# Altium schematic symbol library 26DC_20V_V1.3.SCHLIB: 44 symbols
Pins are listed as number, name and electrical type; pins without a type are passive.

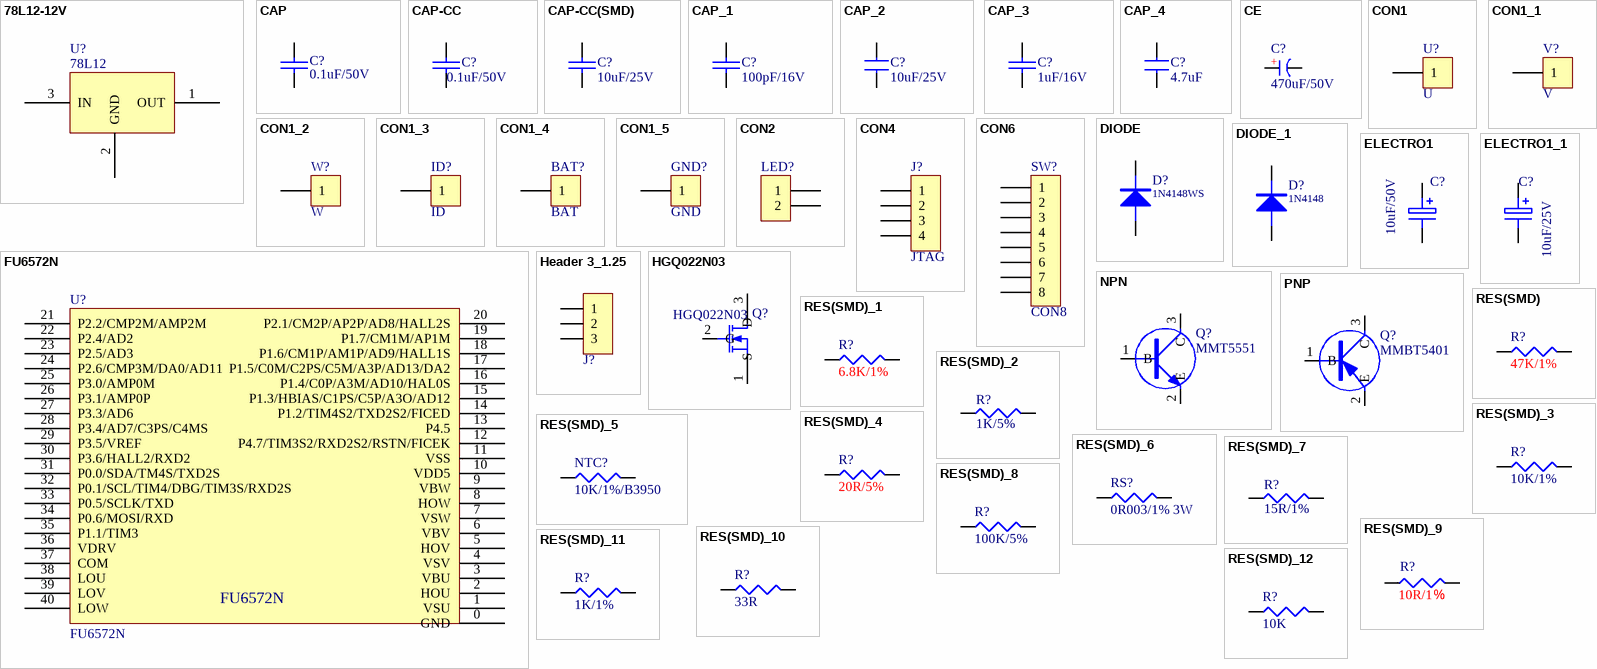
[diagram p0: symbols 78L12-12V to RES(SMD)_12]

## 78L12-12V
designator U?, comment 78L12
footprint SOT-89
pins: 1 OUT, 2 GND, 3 IN

## CAP
designator C?, comment 0.1uF/50V
Capacitor
footprint C0805
footprint 0402C_0.4mm_modifyed
footprint C0603
pins: 1, 2
2 alternate drawings of the same symbol

## CAP-CC
designator C?, comment 0.1uF/50V
Capacitor
footprint CK06
footprint C0603
footprint 0402C_0.4mm_modifyed
pins: 1, 2
2 alternate drawings of the same symbol

## CAP-CC(SMD)
designator C?, comment 10uF/25V
Capacitor
footprint 0603
footprint 0805
footprint 1206
footprint C0805
pins: 1, 2
2 alternate drawings of the same symbol

## CAP_1
designator C?, comment 100pF/16V
Capacitor
footprint C0805
footprint C0603
footprint 0402C_0.4mm_modifyed
pins: 1, 2
2 alternate drawings of the same symbol

## CAP_2
designator C?, comment 10uF/25V
Capacitor
footprint C1206
footprint C0805
footprint C0603
footprint C-3
pins: 1, 2

## CAP_3
designator C?, comment 1uF/16V
Capacitor
footprint C0603
pins: 1, 2
2 alternate drawings of the same symbol

## CAP_4
designator C?, comment 4.7uF
Capacitor
footprint C1206
footprint C0805
footprint C0603
footprint C-3
pins: 1, 2

## CE
designator C?, comment 470uF/50V
直插电解电容; 淘宝ID: 封装库来自淘宝 ID：黄晶宝石; BOM名称: 直插电解电容; 联系售后: https://item.taobao.com/item.htm?id=566775463719
footprint CE-1.5*4*8 - BK (脚距1.5mm直径4mm高度8mm)
footprint CE-1.5*4*8 - GD (脚距1.5mm直径4mm高度8mm)
footprint CE-1.5*4*8-H (脚距1.5mm直径4mm高度8mm)
footprint CE-1.5*4*8-H - BK (脚距1.5mm直径4mm高度8mm)
footprint CE-1.5*4*8-H - GD (脚距1.5mm直径4mm高度8mm)
footprint CE-2.0*5*11 (脚距2mm直径5mm高度11mm)
footprint CE-2.0*5*11 - BK (脚距2mm直径5mm高度11mm)
footprint CE-2.0*5*11 - GD (脚距2mm直径5mm高度11mm)
footprint CE-2.0*5*11-H (脚距2mm直径5mm高度11mm)
footprint CE-2.0*5*11-H - BK (脚距2mm直径5mm高度11mm)
footprint CE-2.0*5*11-H - GD (脚距2mm直径5mm高度11mm)
footprint CE-2.5*5*11 (脚距2.5mm直径5mm高度11mm)
footprint CE-2.5*5*11 - BK (脚距2.5mm直径5mm高度11mm)
footprint CE-2.5*5*11 - GD (脚距2.5mm直径5mm高度11mm)
footprint CE-2.5*5*11-H (脚距2.5mm直径5mm高度11mm)
footprint CE-2.5*5*11-H - BK (脚距2.5mm直径5mm高度11mm)
footprint CE-2.5*5*11-H - GD (脚距2.5mm直径5mm高度11mm)
footprint CE-2.5*6.3*7 (脚距2.5mm直径6.3mm高度7mm)
footprint CE-2.5*6.3*7 - BK (脚距2.5mm直径6.3mm高度7mm)
footprint CE-2.5*6.3*7 - GD (脚距2.5mm直径6.3mm高度7mm)
footprint CE-2.5*6.3*7-H (脚距2.5mm直径6.3mm高度7mm)
footprint CE-2.5*6.3*7-H - BK (脚距2.5mm直径6.3mm高度7mm)
footprint CE-2.5*6.3*7-H - GD (脚距2.5mm直径6.3mm高度7mm)
footprint CE-2.5*6.3*11.2 (脚距2.5mm直径6.3mm高度11.2mm)
footprint CE-2.5*6.3*11.2 - BK (脚距2.5mm直径6.3mm高度11.2mm)
footprint CE-2.5*6.3*11.2 - GD (脚距2.5mm直径6.3mm高度11.2mm)
footprint CE-2.5*6.3*11.2-H (脚距2.5mm直径6.3mm高度11.2mm)
footprint CE-2.5*6.3*11.2-H - BK (脚距2.5mm直径6.3mm高度11.2mm)
footprint CE-2.5*6.3*11.2-H - GD (脚距2.5mm直径6.3mm高度11.2mm)
footprint CE-3.5*8*11.5 (脚距3.5mm直径8mm高度11.5mm)
footprint CE-3.5*8*11.5 - BK (脚距3.5mm直径8mm高度11.5mm)
footprint CE-3.5*8*11.5 - GD (脚距3.5mm直径8mm高度11.5mm)
footprint CE-3.5*8*11.5-H (脚距3.5mm直径8mm高度11.5mm)
footprint CE-3.5*8*11.5-H - BK (脚距3.5mm直径8mm高度11.5mm)
footprint CE-3.5*8*11.5-H - GD (脚距3.5mm直径8mm高度11.5mm)
footprint CE-5.0*10*12.5 (脚距5mm直径10mm高度12.5mm)
footprint CE-5.0*10*12.5 - BK (脚距5mm直径10mm高度12.5mm)
footprint CE-5.0*10*12.5 - GD (脚距5mm直径10mm高度12.5mm)
footprint CE-5.0*10*12.5-H (脚距5mm直径10mm高度12.5mm)
footprint CE-5.0*10*12.5-H - BK (脚距5mm直径10mm高度12.5mm)
footprint CE-5.0*10*12.5-H - GD (脚距5mm直径10mm高度12.5mm)
footprint CE-5.0*10*16 (脚距5mm直径10mm高度16mm)
footprint CE-5.0*10*16 - BK (脚距5mm直径10mm高度16mm)
footprint CE-5.0*10*16 - GD (脚距5mm直径10mm高度16mm)
footprint CE-5.0*10*16-H (脚距5mm直径10mm高度16mm)
footprint CE-5.0*10*16-H - BK (脚距5mm直径10mm高度16mm)
footprint CE-5.0*10*16-H - GD (脚距5mm直径10mm高度16mm)
footprint CE-5.0*10*20 (脚距5mm直径10mm高度20mm)
footprint CE-5.0*10*20 - BK (脚距5mm直径10mm高度20mm)
footprint CE-5.0*10*20 - GD (脚距5mm直径10mm高度20mm)
footprint CE-5.0*10*20-H (脚距5mm直径10mm高度20mm)
footprint CE-5.0*10*20-H - BK (脚距5mm直径10mm高度20mm)
footprint CE-5.0*10*20-H - GD (脚距5mm直径10mm高度20mm)
footprint CE-5.0*12.5*20 (脚距5mm直径12.5mm高度20mm)
footprint CE-5.0*12.5*20 - BK (脚距5mm直径12.5mm高度20mm)
footprint CE-5.0*12.5*20 - GD (脚距5mm直径12.5mm高度20mm)
footprint CE-5.0*12.5*20-H (脚距5mm直径12.5mm高度20mm)
footprint CE-5.0*12.5*20-H - BK (脚距5mm直径12.5mm高度20mm)
footprint CE-5.0*12.5*20-H - GD (脚距5mm直径12.5mm高度20mm)
footprint CE-5.0*12.5*25 (脚距5mm直径12.5mm高度25mm)
footprint CE-5.0*12.5*25 - BK (脚距5mm直径12.5mm高度25mm)
footprint CE-5.0*12.5*25 - GD (脚距5mm直径12.5mm高度25mm)
footprint CE-5.0*12.5*25-H (脚距5mm直径12.5mm高度25mm)
footprint CE-5.0*12.5*25-H - BK (脚距5mm直径12.5mm高度25mm)
footprint CE-5.0*12.5*25-H - GD (脚距5mm直径12.5mm高度25mm)
footprint CE-7.5*16*25 (脚距7.5mm直径16mm高度25mm)
footprint CE-7.5*16*25 - BK (脚距7.5mm直径16mm高度25mm)
footprint CE-7.5*16*25 - GD (脚距7.5mm直径16mm高度25mm)
footprint CE-7.5*16*25-H (脚距7.5mm直径16mm高度25mm)
footprint CE-7.5*16*25-H - BK (脚距7.5mm直径16mm高度25mm)
footprint CE-7.5*16*25-H - GD (脚距7.5mm直径16mm高度25mm)
footprint CE-7.5*16*31.5 (脚距7.5mm直径16mm高度31.5mm)
footprint CE-7.5*16*31.5 - BK (脚距7.5mm直径16mm高度31.5mm)
footprint CE-7.5*16*31.5 - GD (脚距7.5mm直径16mm高度31.5mm)
footprint CE-7.5*16*31.5-H (脚距7.5mm直径16mm高度31.5mm)
footprint CE-7.5*16*31.5-H - BK (脚距7.5mm直径16mm高度31.5mm)
footprint CE-7.5*16*31.5-H - GD (脚距7.5mm直径16mm高度31.5mm)
footprint CE-7.5*18*35.5 (脚距7.5mm直径18mm高度35.5mm)
footprint CE-7.5*18*35.5 - BK (脚距7.5mm直径18mm高度35.5mm)
footprint CE-7.5*18*35.5 - GD (脚距7.5mm直径18mm高度35.5mm)
footprint CE-7.5*18*35.5-H (脚距7.5mm直径18mm高度35.5mm)
footprint CE-7.5*18*35.5-H - BK (脚距7.5mm直径18mm高度35.5mm)
footprint CE-7.5*18*35.5-H - GD (脚距7.5mm直径18mm高度35.5mm)
footprint CE-10*22*31.5 (脚距10mm直径22mm高度31.5mm)
footprint CE-10*22*31.5 - BK (脚距10mm直径22mm高度31.5mm)
footprint CE-10*22*31.5 - GD (脚距10mm直径22mm高度31.5mm)
footprint CE-10*22*40 (脚距10mm直径22mm高度40mm)
footprint CE-10*22*40 - BK (脚距10mm直径22mm高度40mm)
footprint CE-10*22*40 - GD (脚距10mm直径22mm高度40mm)
footprint CE-1.5*4*8 (脚距1.5mm直径4mm高度8mm)
pins: 1 A, 2 K
text: +

## CON1
designator U?, comment U
Connector
footprint TP
footprint 187 (187 famcel termianl)
pins: 1
2 alternate drawings of the same symbol

## CON1_1
designator V?, comment V
Connector
footprint TP
footprint 187 (187 famcel termianl)
pins: 1
2 alternate drawings of the same symbol

## CON1_2
designator W?, comment W
Connector
footprint TP
footprint 187 (187 famcel termianl)
pins: 1
2 alternate drawings of the same symbol

## CON1_3
designator ID?, comment ID
Connector
footprint TP
footprint TP
pins: 1
2 alternate drawings of the same symbol

## CON1_4
designator BAT?, comment BAT
Connector
footprint TP
footprint TP
pins: 1
2 alternate drawings of the same symbol

## CON1_5
designator GND?, comment GND
Connector
footprint TP
footprint TP
pins: 1
2 alternate drawings of the same symbol

## CON2
designator LED?, comment CONN-SMD_2P-P1.00_HC-1.0-2PLT  (value not drawn)
Connector
footprint SIP1*2/5
footprint DIP-1*2/7.9
footprint SMD_1.0_2P
footprint CONN-SMD_2P-P1.00_HC-1.0-2PLT
footprint SMD_1.0_2P
pins: 1, 2
2 alternate drawings of the same symbol

## CON4
designator J?, comment JTAG
Connector
footprint 4p-2.54-Pad
pins: 1, 2, 3, 4
2 alternate drawings of the same symbol

## CON6
designator SW?, comment CON8
Connector
footprint CONN-SMD_8P-P1.00_MEGASTAR_ZX-SH1.0-8PLT
pins: 1, 2, 3, 4, 5, 6, 7, 8

## DIODE
designator D?, comment 1N4148WS
footprint M7
footprint SOD-123; pin to pad A>1 K>2
footprint SOD-323; pin to pad A>1 K>2
pins: A, K
2 alternate drawings of the same symbol

## DIODE_1
designator D?, comment 1N4148
footprint M7
footprint SOD-123; pin to pad A>1 K>2
footprint SOD-323; pin to pad A>1 K>2
pins: A, K
2 alternate drawings of the same symbol

## ELECTRO1
designator C?, comment 10uF/50V
Electrolytic Capacitor
footprint C0805
footprint EC10UF/50V-A
footprint EC47UF/50V-A
footprint EC470UF/25V-A
footprint C0805
pins: 1, 2
2 alternate drawings of the same symbol

## ELECTRO1_1
designator C?, comment 10uF/25V
Electrolytic Capacitor
footprint EC2.2UF/50V-A
footprint EC10UF/50V-A
footprint EC47UF/50V-A
footprint EC470UF/25V-A
footprint C0805
pins: 1, 2
2 alternate drawings of the same symbol

## FU6572N
designator U?
footprint QFN40_5*5 (Footprint not found)
pins: 0 GND, 1 VSU, 2 HOU, 3 VBU, 4 VSV, 5 HOV, 6 VBV, 7 VSW, 8 HOW, 9 VBW, 10 VDD5, 11 VSS, 12 P4.7/TIM3S2/RXD2S2/RSTN/FICEK, 13 P4.5, 14 P1.2/TIM4S2/TXD2S2/FICED, 15 P1.3/HBIAS/C1PS/C5P/A3O/AD12, 16 P1.4/C0P/A3M/AD10/HAL0S, 17 P1.5/C0M/C2PS/C5M/A3P/AD13/DA2, 18 P1.6/CM1P/AM1P/AD9/HALL1S, 19 P1.7/CM1M/AP1M, 20 P2.1/CM2P/AP2P/AD8/HALL2S, 21 P2.2/CMP2M/AMP2M, 22 P2.4/AD2, 23 P2.5/AD3, 24 P2.6/CMP3M/DA0/AD11, 25 P3.0/AMP0M, 26 P3.1/AMP0P, 27 P3.3/AD6, 28 P3.4/AD7/C3PS/C4MS, 29 P3.5/VREF, 30 P3.6/HALL2/RXD2, 31 P0.0/SDA/TM4S/TXD2S, 32 P0.1/SCL/TIM4/DBG/TIM3S/RXD2S, 33 P0.5/SCLK/TXD, 34 P0.6/MOSI/RXD, 35 P1.1/TIM3, 36 VDRV, 37 COM, 38 LOU, 39 LOV, 40 LOW
2 alternate drawings of the same symbol

## Header 3_1.25
designator J?, comment HDR-1X3_1.25  (value not drawn)
3P接插件_1.25; BOM名称: 3P接插件; 联系售后: 封装库来自淘宝 ID：黄晶宝石; 学习资源: https://shop463601444.taobao.com
footprint CONN-SMD-3P-P1.00_BM03B-SRSS-TB-LF-SN
pins: 1, 2, 3

## HGQ022N03
designator Q?
footprint PQFN5X6
footprint DFN5*6
pins: 1 S, 2 G, 3 D

## NPN
designator Q?, comment MMT5551
NPN Transistor
footprint SOT-23
pins: 1 B, 2 E, 3 C
2 alternate drawings of the same symbol

## PNP
designator Q?, comment MMBT5401
footprint SOT-23
pins: 1 B, 2 E, 3 C

## RES(SMD)
designator R?, comment 47K/1%
footprint 0603
footprint 0805
footprint 1206
footprint 2512
footprint R0603
pins: 1, 2
2 alternate drawings of the same symbol

## RES(SMD)_1
designator R?, comment 6.8K/1%
footprint 0603
footprint 0805
footprint 1206
footprint 2512
footprint R0603
pins: 1, 2
2 alternate drawings of the same symbol

## RES(SMD)_2
designator R?, comment 1K/5%
footprint 0603
footprint 0805
footprint 1206
footprint 2512
footprint R0603
pins: 1, 2
2 alternate drawings of the same symbol

## RES(SMD)_3
designator R?, comment 10K/1%
footprint 0603
footprint 0805
footprint 1206
footprint 2512
footprint R0603
pins: 1, 2
2 alternate drawings of the same symbol

## RES(SMD)_4
designator R?, comment 20R/5%
footprint R0805
footprint 0805
footprint R1206
footprint 2512
footprint R0603
pins: 1, 2

## RES(SMD)_5
designator NTC?, comment 10K/1%/B3950
footprint 0603
footprint 0805
footprint 1206
footprint 2512
footprint R0603
pins: 1, 2
2 alternate drawings of the same symbol

## RES(SMD)_6
designator RS?, comment 0R003/1% 3W
footprint R2512
pins: 1, 2
2 alternate drawings of the same symbol

## RES(SMD)_7
designator R?, comment 15R/1%
footprint R0603
pins: 1, 2
2 alternate drawings of the same symbol

## RES(SMD)_8
designator R?, comment 100K/5%
footprint 0603
footprint 0805
footprint 1206
footprint 2512
footprint R0603
pins: 1, 2
2 alternate drawings of the same symbol

## RES(SMD)_9
designator R?, comment 10R/1％
footprint 0603
footprint R1206
footprint 1206
footprint 2512
footprint R0603
pins: 1, 2
2 alternate drawings of the same symbol

## RES(SMD)_10
designator R?, comment 33R
footprint R0603
pins: 1, 2
2 alternate drawings of the same symbol

## RES(SMD)_11
designator R?, comment 1K/1%
footprint R0603
footprint 0805
footprint 1206
footprint 2512
footprint R0402
footprint R0603
pins: 1, 2

## RES(SMD)_12
designator R?, comment 10K
footprint 0603
footprint 0805
footprint 1206
footprint 2512
footprint R0603
pins: 1, 2
2 alternate drawings of the same symbol

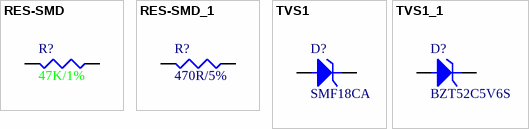
[diagram p1: symbols RES-SMD to TVS1_1]

## RES-SMD
designator R?, comment 47K/1%
RES
footprint R1206
footprint R0402
footprint R0603
footprint AXIAL0.4
pins: 1, 2
2 alternate drawings of the same symbol

## RES-SMD_1
designator R?, comment 470R/5%
RES
footprint R1206
pins: 1, 2
2 alternate drawings of the same symbol

## TVS1
designator D?, comment SMF18CA
Zener Diode
footprint SOD-123
footprint SOT-23
pins: 1 A, 2 K

## TVS1_1
designator D?, comment BZT52C5V6S
Zener Diode
footprint SOD-323
footprint SOT-23
pins: 1 A, 2 K